# EAGLE library part FE08-1 (library harwin_2020)
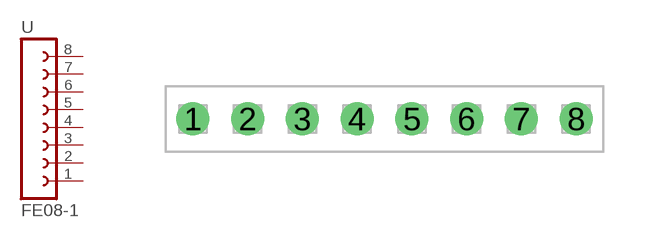
[diagram p0: symbol with the pads of M22-7130842; footprint M22-7130842]

Designator prefix -

## FE08-1  [M22-7130842]
1  1  pas
2  2  pas
3  3  pas
4  4  pas
5  5  pas
6  6  pas
7  7  pas
8  8  pas

## Footprint M22-7130842 (pad centres in mm)
drill 0.7 pad 1.1 round: 1 -7,0; 2 -5,0; 3 -3,0; 4 -1,0; 5 1,0; 6 3,0; 7 5,0; 8 7,0